# EAGLE library part CP2104 (library CP2104-MINIEK)
CP2104-Breakout Mouser-634-CP2104-MINIEK
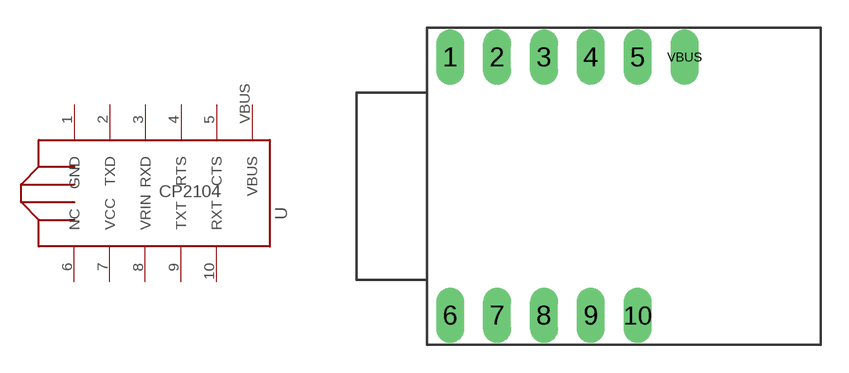
[diagram p0: symbol with the pads of CP2104; footprint CP2104]

Designator prefix -

## CP2104  [CP2104]
1  GND
2  TXD
3  RXD
4  RTS
5  CTS
6  NC
7  VCC
8  VRIN
9  TXT
10  RXT
VBUS  VBUS

## Footprint CP2104 (pad centres in mm)
drill 1 long: 1 -5.08,7; 2 -2.54,7; 3 0,7; 4 2.54,7; 5 5.08,7; 6 -5.08,-7; 7 -2.54,-7; 8 0,-7; 9 2.54,-7; 10 5.08,-7; VBUS 7.62,7